# EAGLE library part 6 (library Connectors > Header)
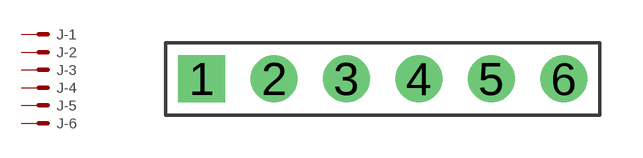
[diagram p2: symbol with the pads of 1X6_2.54; footprint 1X6_2.54]

Designator prefix J; gates -1=K -2=K -3=K -4=K -5=K -6=K

## 6  [1X6_2.54]
1  -1:S  pas
2  -2:S  pas
3  -3:S  pas
4  -4:S  pas
5  -5:S  pas
6  -6:S  pas

## Footprint 1X6_2.54 (pad centres in mm)
drill 1.1 square: 1 -2.54,0
drill 1.1: 2 0,0; 3 2.54,0; 4 5.08,0; 5 7.62,0; 6 10.16,0